# Altium schematic symbol library WCAP-FTBE.SchLib: 30 symbols
Pins are listed as number, name and electrical type; pins without a type are passive.

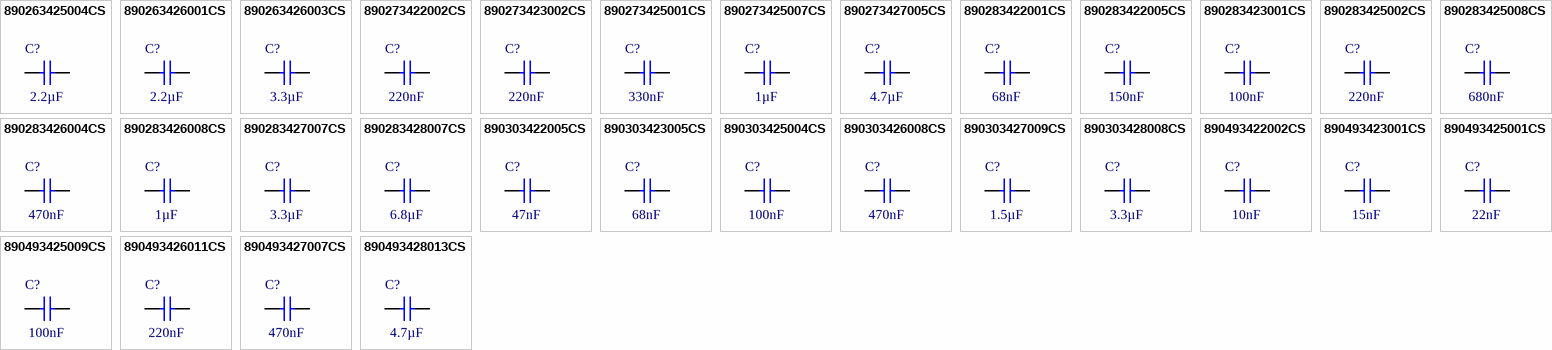
[diagram p0: symbols 890263425004CS to 890493428013CS]

## 890263425004CS
designator C?, comment 2.2µF
WCAP-FTBE Film Capacitor, THT, L18 x W8.5 x H15mm, 2.2µF, 100V; Manufacturer Part Number: 890263425004CS; Manufacturer: Wurth Elektronik; Dissipation Factor @1kHz: 1%; Insulation Resistance: 1.36GΩ; Rate of Voltage Rise: 9V/µs; Rated Voltage @85degC: 100V (DC); Rated Voltage @105degC: 80V (DC); Category: Film Capacitors; Match Code: WCAP-FTBE; ComponentLink1Description: Website Link; ComponentLink1URL: https://www.we-online.com/redexpert/article/890263425004CS?ad; ComponentLink2Description: Datasheet Link; ComponentLink2URL: https://www.we-online.com/redexpert/spec/890263425004CS?ad; Mount: Through Hole; Min Operating Temperature: -40°C; Max Operating Temperature: 85°C; Packaging: Carton; Length: 18mm; Width: 8.5mm; Height: 15mm; Capacitance: 2.2µF
footprint WCAP-FTBE_L18W8.5H15
simulation model 890263426001CS_2.2uF
pins: 1, 2

## 890263426001CS
designator C?, comment 2.2µF
WCAP-FTBE Film Capacitor, THT, L26 x W6 x H15mm, 2.2µF, 100V; Manufacturer Part Number: 890263426001CS; Manufacturer: Wurth Elektronik; Dissipation Factor @1kHz: 1%; Insulation Resistance: 1.36GΩ; Rate of Voltage Rise: 5V/µs; Rated Voltage @85degC: 100V (DC); Rated Voltage @105degC: 80V (DC); Category: Film Capacitors; Match Code: WCAP-FTBE; ComponentLink1Description: Website Link; ComponentLink1URL: https://www.we-online.com/redexpert/article/890263426001CS?ad; ComponentLink2Description: Datasheet Link; ComponentLink2URL: https://www.we-online.com/redexpert/spec/890263426001CS?ad; Mount: Through Hole; Min Operating Temperature: -40°C; Max Operating Temperature: 85°C; Packaging: Carton; Length: 26mm; Width: 6mm; Height: 15mm; Capacitance: 2.2µF
footprint WCAP-FTBE_L26W6H15
simulation model 890263426003CS_3.3uF
pins: 1, 2

## 890263426003CS
designator C?, comment 3.3µF
WCAP-FTBE Film Capacitor, THT, L26 x W7 x H16.5mm, 3.3µF, 100V; Manufacturer Part Number: 890263426003CS; Manufacturer: Wurth Elektronik; Dissipation Factor @1kHz: 1%; Insulation Resistance: 909.09MΩ; Rate of Voltage Rise: 5V/µs; Rated Voltage @85degC: 100V (DC); Rated Voltage @105degC: 80V (DC); Category: Film Capacitors; Match Code: WCAP-FTBE; ComponentLink1Description: Website Link; ComponentLink1URL: https://www.we-online.com/redexpert/article/890263426003CS?ad; ComponentLink2Description: Datasheet Link; ComponentLink2URL: https://www.we-online.com/redexpert/spec/890263426003CS?ad; Mount: Through Hole; Min Operating Temperature: -40°C; Max Operating Temperature: 85°C; Packaging: Carton; Length: 26mm; Width: 7mm; Height: 16.5mm; Capacitance: 3.3µF
footprint WCAP-FTBE_L26W7H16.5
simulation model 890283427007CS_3.3uF
pins: 1, 2

## 890273422002CS
designator C?, comment 220nF
WCAP-FTBE Film Capacitor, THT, L10.5 x W6 x H12mm, 220nF, 250V; Manufacturer Part Number: 890273422002CS; Manufacturer: Wurth Elektronik; Dissipation Factor @1kHz: 1%; Insulation Resistance: 9GΩ; Rate of Voltage Rise: 38V/µs; Rated Voltage @85degC: 250V (DC); Rated Voltage @105degC: 200V (DC); Category: Film Capacitors; Match Code: WCAP-FTBE; ComponentLink1Description: Website Link; ComponentLink1URL: https://www.we-online.com/redexpert/article/890273422002CS?ad; ComponentLink2Description: Datasheet Link; ComponentLink2URL: https://www.we-online.com/redexpert/spec/890273422002CS?ad; Mount: Through Hole; Min Operating Temperature: -40°C; Max Operating Temperature: 85°C; Packaging: Carton; Length: 10.5mm; Width: 6mm; Height: 12mm; Capacitance: 220nF
footprint WCAP-FTBE_L10.5W6H12
simulation model 890273423002CS_220nF
pins: 1, 2

## 890273423002CS
designator C?, comment 220nF
WCAP-FTBE Film Capacitor, THT, L13 x W5 x H11mm, 220nF, 250V; Manufacturer Part Number: 890273423002CS; Manufacturer: Wurth Elektronik; Dissipation Factor @1kHz: 1%; Insulation Resistance: 9GΩ; Rate of Voltage Rise: 23V/µs; Rated Voltage @85degC: 250V (DC); Rated Voltage @105degC: 200V (DC); Category: Film Capacitors; Match Code: WCAP-FTBE; ComponentLink1Description: Website Link; ComponentLink1URL: https://www.we-online.com/redexpert/article/890273423002CS?ad; ComponentLink2Description: Datasheet Link; ComponentLink2URL: https://www.we-online.com/redexpert/spec/890273423002CS?ad; Mount: Through Hole; Min Operating Temperature: -40°C; Max Operating Temperature: 85°C; Packaging: Carton; Length: 13mm; Width: 5mm; Height: 11mm; Capacitance: 220nF
footprint WCAP-FTBE_L13W5H11
simulation model 890283425002CS_220nF
pins: 1, 2

## 890273425001CS
designator C?, comment 330nF
WCAP-FTBE Film Capacitor, THT, L18 x W5 x H11mm, 330nF, 250V; Manufacturer Part Number: 890273425001CS; Manufacturer: Wurth Elektronik; Dissipation Factor @1kHz: 1%; Insulation Resistance: 9GΩ; Rate of Voltage Rise: 8V/µs; Rated Voltage @85degC: 250V (DC); Rated Voltage @105degC: 200V (DC); Category: Film Capacitors; Match Code: WCAP-FTBE; ComponentLink1Description: Website Link; ComponentLink1URL: https://www.we-online.com/redexpert/article/890273425001CS?ad; ComponentLink2Description: Datasheet Link; ComponentLink2URL: https://www.we-online.com/redexpert/spec/890273425001CS?ad; Mount: Through Hole; Min Operating Temperature: -40°C; Max Operating Temperature: 85°C; Packaging: Carton; Length: 18mm; Width: 5mm; Height: 11mm; Capacitance: 330nF
footprint WCAP-FTBE_L18W5H11
simulation model 890283426004CS_470nF
pins: 1, 2

## 890273425007CS
designator C?, comment 1µF
WCAP-FTBE Film Capacitor, THT, L18 x W7 x H13mm, 1µF, 250V; Manufacturer Part Number: 890273425007CS; Manufacturer: Wurth Elektronik; Dissipation Factor @1kHz: 1%; Insulation Resistance: 3GΩ; Rate of Voltage Rise: 11V/µs; Rated Voltage @85degC: 250V (DC); Rated Voltage @105degC: 200V (DC); Category: Film Capacitors; Match Code: WCAP-FTBE; ComponentLink1Description: Website Link; ComponentLink1URL: https://www.we-online.com/redexpert/article/890273425007CS?ad; ComponentLink2Description: Datasheet Link; ComponentLink2URL: https://www.we-online.com/redexpert/spec/890273425007CS?ad; Mount: Through Hole; Min Operating Temperature: -40°C; Max Operating Temperature: 85°C; Packaging: Carton; Length: 18mm; Width: 7mm; Height: 13mm; Capacitance: 1µF
footprint WCAP-FTBE_L18W7H13
simulation model 890283426008CS_1uF
pins: 1, 2

## 890273427005CS
designator C?, comment 4.7µF
WCAP-FTBE Film Capacitor, THT, L31 x W11 x H20mm, 4.7µF, 250V; Manufacturer Part Number: 890273427005CS; Manufacturer: Wurth Elektronik; Dissipation Factor @1kHz: 1%; Insulation Resistance: 638.3MΩ; Rate of Voltage Rise: 6V/µs; Rated Voltage @85degC: 250V (DC); Rated Voltage @105degC: 200V (DC); Category: Film Capacitors; Match Code: WCAP-FTBE; ComponentLink1Description: Website Link; ComponentLink1URL: https://www.we-online.com/redexpert/article/890273427005CS?ad; ComponentLink2Description: Datasheet Link; ComponentLink2URL: https://www.we-online.com/redexpert/spec/890273427005CS?ad; Mount: Through Hole; Min Operating Temperature: -40°C; Max Operating Temperature: 85°C; Packaging: Carton; Length: 31mm; Width: 11mm; Height: 20mm; Capacitance: 4.7µF
footprint WCAP-FTBE_L31W11H20
simulation model 890493428013CS_4.7uF
pins: 1, 2

## 890283422001CS
designator C?, comment 68nF
WCAP-FTBE Film Capacitor, THT, L10.5 x W5 x H11mm, 68nF, 400V; Manufacturer Part Number: 890283422001CS; Manufacturer: Wurth Elektronik; Dissipation Factor @1kHz: 1%; Insulation Resistance: 9GΩ; Rate of Voltage Rise: 44V/µs; Rated Voltage @85degC: 400V (DC); Rated Voltage @105degC: 320V (DC); Category: Film Capacitors; Match Code: WCAP-FTBE; ComponentLink1Description: Website Link; ComponentLink1URL: https://www.we-online.com/redexpert/article/890283422001CS?ad; ComponentLink2Description: Datasheet Link; ComponentLink2URL: https://www.we-online.com/redexpert/spec/890283422001CS?ad; Mount: Through Hole; Min Operating Temperature: -40°C; Max Operating Temperature: 85°C; Packaging: Carton; Length: 10.5mm; Width: 5mm; Height: 11mm; Capacitance: 68nF
footprint WCAP-FTBE_L10.5W5H11
simulation model 890283422001CS_68nF
pins: 1, 2

## 890283422005CS
designator C?, comment 150nF
WCAP-FTBE Film Capacitor, THT, L10.5 x W6 x H12mm, 150nF, 400V; Manufacturer Part Number: 890283422005CS; Manufacturer: Wurth Elektronik; Dissipation Factor @1kHz: 1%; Insulation Resistance: 9GΩ; Rate of Voltage Rise: 46V/µs; Rated Voltage @85degC: 400V (DC); Rated Voltage @105degC: 320V (DC); Category: Film Capacitors; Match Code: WCAP-FTBE; ComponentLink1Description: Website Link; ComponentLink1URL: https://www.we-online.com/redexpert/article/890283422005CS?ad; ComponentLink2Description: Datasheet Link; ComponentLink2URL: https://www.we-online.com/redexpert/spec/890283422005CS?ad; Mount: Through Hole; Min Operating Temperature: -40°C; Max Operating Temperature: 85°C; Packaging: Carton; Length: 10.5mm; Width: 6mm; Height: 12mm; Capacitance: 150nF
footprint WCAP-FTBE_L10.5W6H12
simulation model 890283422005CS_150nF
pins: 1, 2

## 890283423001CS
designator C?, comment 100nF
WCAP-FTBE Film Capacitor, THT, L13 x W5 x H11mm, 100nF, 400V; Manufacturer Part Number: 890283423001CS; Manufacturer: Wurth Elektronik; Dissipation Factor @1kHz: 1%; Insulation Resistance: 9GΩ; Rate of Voltage Rise: 34V/µs; Rated Voltage @85degC: 400V (DC); Rated Voltage @105degC: 320V (DC); Category: Film Capacitors; Match Code: WCAP-FTBE; ComponentLink1Description: Website Link; ComponentLink1URL: https://www.we-online.com/redexpert/article/890283423001CS?ad; ComponentLink2Description: Datasheet Link; ComponentLink2URL: https://www.we-online.com/redexpert/spec/890283423001CS?ad; Mount: Through Hole; Min Operating Temperature: -40°C; Max Operating Temperature: 85°C; Packaging: Carton; Length: 13mm; Width: 5mm; Height: 11mm; Capacitance: 100nF
footprint WCAP-FTBE_L13W5H11
simulation model 890283423001CS_100nF
pins: 1, 2

## 890283425002CS
designator C?, comment 220nF
WCAP-FTBE Film Capacitor, THT, L18 x W5 x H11mm, 220nF, 400V; Manufacturer Part Number: 890283425002CS; Manufacturer: Wurth Elektronik; Dissipation Factor @1kHz: 1%; Insulation Resistance: 9GΩ; Rate of Voltage Rise: 12V/µs; Rated Voltage @85degC: 400V (DC); Rated Voltage @105degC: 320V (DC); Category: Film Capacitors; Match Code: WCAP-FTBE; ComponentLink1Description: Website Link; ComponentLink1URL: https://www.we-online.com/redexpert/article/890283425002CS?ad; ComponentLink2Description: Datasheet Link; ComponentLink2URL: https://www.we-online.com/redexpert/spec/890283425002CS?ad; Mount: Through Hole; Min Operating Temperature: -40°C; Max Operating Temperature: 85°C; Packaging: Carton; Length: 18mm; Width: 5mm; Height: 11mm; Capacitance: 220nF
footprint WCAP-FTBE_L18W5H11
simulation model 890493426011CS_220nF
pins: 1, 2

## 890283425008CS
designator C?, comment 680nF
WCAP-FTBE Film Capacitor, THT, L18 x W8.5 x H15mm, 680nF, 400V; Manufacturer Part Number: 890283425008CS; Manufacturer: Wurth Elektronik; Dissipation Factor @1kHz: 1%; Insulation Resistance: 4.41GΩ; Rate of Voltage Rise: 18V/µs; Rated Voltage @85degC: 400V (DC); Rated Voltage @105degC: 320V (DC); Category: Film Capacitors; Match Code: WCAP-FTBE; ComponentLink1Description: Website Link; ComponentLink1URL: https://www.we-online.com/redexpert/article/890283425008CS?ad; ComponentLink2Description: Datasheet Link; ComponentLink2URL: https://www.we-online.com/redexpert/spec/890283425008CS?ad; Mount: Through Hole; Min Operating Temperature: -40°C; Max Operating Temperature: 85°C; Packaging: Carton; Length: 18mm; Width: 8.5mm; Height: 15mm; Capacitance: 680nF
footprint WCAP-FTBE_L18W8.5H15
simulation model 890273425007CS_1uF
pins: 1, 2

## 890283426004CS
designator C?, comment 470nF
WCAP-FTBE Film Capacitor, THT, L26 x W6 x H15mm, 470nF, 400V; Manufacturer Part Number: 890283426004CS; Manufacturer: Wurth Elektronik; Dissipation Factor @1kHz: 1%; Insulation Resistance: 6.38GΩ; Rate of Voltage Rise: 11V/µs; Rated Voltage @85degC: 400V (DC); Rated Voltage @105degC: 320V (DC); Category: Film Capacitors; Match Code: WCAP-FTBE; ComponentLink1Description: Website Link; ComponentLink1URL: https://www.we-online.com/redexpert/article/890283426004CS?ad; ComponentLink2Description: Datasheet Link; ComponentLink2URL: https://www.we-online.com/redexpert/spec/890283426004CS?ad; Mount: Through Hole; Min Operating Temperature: -40°C; Max Operating Temperature: 85°C; Packaging: Carton; Length: 26mm; Width: 6mm; Height: 15mm; Capacitance: 470nF
footprint WCAP-FTBE_L26W6H15
simulation model 890303426008CS_470nF
pins: 1, 2

## 890283426008CS
designator C?, comment 1µF
WCAP-FTBE Film Capacitor, THT, L26 x W9 x H18mm, 1µF, 400V; Manufacturer Part Number: 890283426008CS; Manufacturer: Wurth Elektronik; Dissipation Factor @1kHz: 1%; Insulation Resistance: 3GΩ; Rate of Voltage Rise: 13V/µs; Rated Voltage @85degC: 400V (DC); Rated Voltage @105degC: 320V (DC); Category: Film Capacitors; Match Code: WCAP-FTBE; ComponentLink1Description: Website Link; ComponentLink1URL: https://www.we-online.com/redexpert/article/890283426008CS?ad; ComponentLink2Description: Datasheet Link; ComponentLink2URL: https://www.we-online.com/redexpert/spec/890283426008CS?ad; Mount: Through Hole; Min Operating Temperature: -40°C; Max Operating Temperature: 85°C; Packaging: Carton; Length: 26mm; Width: 9mm; Height: 18mm; Capacitance: 1µF
footprint WCAP-FTBE_L26W9H18
simulation model 890303427009CS_1.5uF
pins: 1, 2

## 890283427007CS
designator C?, comment 3.3µF
WCAP-FTBE Film Capacitor, THT, L31 x W15 x H24.5mm, 3.3µF, 400V; Manufacturer Part Number: 890283427007CS; Manufacturer: Wurth Elektronik; Dissipation Factor @1kHz: 1%; Insulation Resistance: 909.09MΩ; Rate of Voltage Rise: 11V/µs; Rated Voltage @85degC: 400V (DC); Rated Voltage @105degC: 320V (DC); Category: Film Capacitors; Match Code: WCAP-FTBE; ComponentLink1Description: Website Link; ComponentLink1URL: https://www.we-online.com/redexpert/article/890283427007CS?ad; ComponentLink2Description: Datasheet Link; ComponentLink2URL: https://www.we-online.com/redexpert/spec/890283427007CS?ad; Mount: Through Hole; Min Operating Temperature: -40°C; Max Operating Temperature: 85°C; Packaging: Carton; Length: 31mm; Width: 15mm; Height: 24.5mm; Capacitance: 3.3µF
footprint WCAP-FTBE_L31W15H24.5
simulation model 890303428008CS_3.3uF
pins: 1, 2

## 890283428007CS
designator C?, comment 6.8µF
WCAP-FTBE Film Capacitor, THT, L42 x W20.5 x H34mm, 6.8µF, 400V; Manufacturer Part Number: 890283428007CS; Manufacturer: Wurth Elektronik; Dissipation Factor @1kHz: 1%; Insulation Resistance: 441.18MΩ; Rate of Voltage Rise: 9V/µs; Rated Voltage @85degC: 400V (DC); Rated Voltage @105degC: 320V (DC); Category: Film Capacitors; Match Code: WCAP-FTBE; ComponentLink1Description: Website Link; ComponentLink1URL: https://www.we-online.com/redexpert/article/890283428007CS?ad; ComponentLink2Description: Datasheet Link; ComponentLink2URL: https://www.we-online.com/redexpert/spec/890283428007CS?ad; Mount: Through Hole; Min Operating Temperature: -40°C; Max Operating Temperature: 85°C; Packaging: Carton; Length: 42mm; Width: 20.5mm; Height: 34mm; Capacitance: 6.8µF
footprint WCAP-FTBE_L42W20.5H34
pins: 1, 2

## 890303422005CS
designator C?, comment 47nF
WCAP-FTBE Film Capacitor, THT, L10.5 x W6 x H12mm, 47nF, 630V; Manufacturer Part Number: 890303422005CS; Manufacturer: Wurth Elektronik; Dissipation Factor @1kHz: 1%; Insulation Resistance: 9GΩ; Rate of Voltage Rise: 100V/µs; Rated Voltage @85degC: 630V (DC); Rated Voltage @105degC: 504V (DC); Category: Film Capacitors; Match Code: WCAP-FTBE; ComponentLink1Description: Website Link; ComponentLink1URL: https://www.we-online.com/redexpert/article/890303422005CS?ad; ComponentLink2Description: Datasheet Link; ComponentLink2URL: https://www.we-online.com/redexpert/spec/890303422005CS?ad; Mount: Through Hole; Min Operating Temperature: -40°C; Max Operating Temperature: 85°C; Packaging: Carton; Length: 10.5mm; Width: 6mm; Height: 12mm; Capacitance: 47nF
footprint WCAP-FTBE_L10.5W6H12
simulation model 890303422005CS_47nF
pins: 1, 2

## 890303423005CS
designator C?, comment 68nF
WCAP-FTBE Film Capacitor, THT, L13 x W5.5 x H11mm, 68nF, 630V; Manufacturer Part Number: 890303423005CS; Manufacturer: Wurth Elektronik; Dissipation Factor @1kHz: 1%; Insulation Resistance: 9GΩ; Rate of Voltage Rise: 52V/µs; Rated Voltage @85degC: 630V (DC); Rated Voltage @105degC: 504V (DC); Category: Film Capacitors; Match Code: WCAP-FTBE; ComponentLink1Description: Website Link; ComponentLink1URL: https://www.we-online.com/redexpert/article/890303423005CS?ad; ComponentLink2Description: Datasheet Link; ComponentLink2URL: https://www.we-online.com/redexpert/spec/890303423005CS?ad; Mount: Through Hole; Min Operating Temperature: -40°C; Max Operating Temperature: 85°C; Packaging: Carton; Length: 13mm; Width: 5.5mm; Height: 11mm; Capacitance: 68nF
footprint WCAP-FTBE_L13W5.5H11
simulation model 890303423005CS_68nF
pins: 1, 2

## 890303425004CS
designator C?, comment 100nF
WCAP-FTBE Film Capacitor, THT, L18 x W6 x H12mm, 100nF, 630V; Manufacturer Part Number: 890303425004CS; Manufacturer: Wurth Elektronik; Dissipation Factor @1kHz: 1%; Insulation Resistance: 9GΩ; Rate of Voltage Rise: 28V/µs; Rated Voltage @85degC: 630V (DC); Rated Voltage @105degC: 504V (DC); Category: Film Capacitors; Match Code: WCAP-FTBE; ComponentLink1Description: Website Link; ComponentLink1URL: https://www.we-online.com/redexpert/article/890303425004CS?ad; ComponentLink2Description: Datasheet Link; ComponentLink2URL: https://www.we-online.com/redexpert/spec/890303425004CS?ad; Mount: Through Hole; Min Operating Temperature: -40°C; Max Operating Temperature: 85°C; Packaging: Carton; Length: 18mm; Width: 6mm; Height: 12mm; Capacitance: 100nF
footprint WCAP-FTBE_L18W6H12
simulation model 890303425004CS_100nF
pins: 1, 2

## 890303426008CS
designator C?, comment 470nF
WCAP-FTBE Film Capacitor, THT, L26 x W9 x H18mm, 470nF, 630V; Manufacturer Part Number: 890303426008CS; Manufacturer: Wurth Elektronik; Dissipation Factor @1kHz: 1%; Insulation Resistance: 6.38GΩ; Rate of Voltage Rise: 20V/µs; Rated Voltage @85degC: 630V (DC); Rated Voltage @105degC: 504V (DC); Category: Film Capacitors; Match Code: WCAP-FTBE; ComponentLink1Description: Website Link; ComponentLink1URL: https://www.we-online.com/redexpert/article/890303426008CS?ad; ComponentLink2Description: Datasheet Link; ComponentLink2URL: https://www.we-online.com/redexpert/spec/890303426008CS?ad; Mount: Through Hole; Min Operating Temperature: -40°C; Max Operating Temperature: 85°C; Packaging: Carton; Length: 26mm; Width: 9mm; Height: 18mm; Capacitance: 470nF
footprint WCAP-FTBE_L26W9H18
simulation model 890493427007CS_470nF
pins: 1, 2

## 890303427009CS
designator C?, comment 1.5µF
WCAP-FTBE Film Capacitor, THT, L31 x W15 x H24.5mm, 1.5µF, 630V; Manufacturer Part Number: 890303427009CS; Manufacturer: Wurth Elektronik; Dissipation Factor @1kHz: 1%; Insulation Resistance: 2GΩ; Rate of Voltage Rise: 17V/µs; Rated Voltage @85degC: 630V (DC); Rated Voltage @105degC: 504V (DC); Category: Film Capacitors; Match Code: WCAP-FTBE; ComponentLink1Description: Website Link; ComponentLink1URL: https://www.we-online.com/redexpert/article/890303427009CS?ad; ComponentLink2Description: Datasheet Link; ComponentLink2URL: https://www.we-online.com/redexpert/spec/890303427009CS?ad; Mount: Through Hole; Min Operating Temperature: -40°C; Max Operating Temperature: 85°C; Packaging: Carton; Length: 31mm; Width: 15mm; Height: 24.5mm; Capacitance: 1.5µF
footprint WCAP-FTBE_L31W15H24.5
simulation model 890263425004CS_2.2uF
pins: 1, 2

## 890303428008CS
designator C?, comment 3.3µF
WCAP-FTBE Film Capacitor, THT, L42 x W17 x H30mm, 3.3µF, 630V; Manufacturer Part Number: 890303428008CS; Manufacturer: Wurth Elektronik; Dissipation Factor @1kHz: 1%; Insulation Resistance: 909.09MΩ; Rate of Voltage Rise: 12V/µs; Rated Voltage @85degC: 630V (DC); Rated Voltage @105degC: 504V (DC); Category: Film Capacitors; Match Code: WCAP-FTBE; ComponentLink1Description: Website Link; ComponentLink1URL: https://www.we-online.com/redexpert/article/890303428008CS?ad; ComponentLink2Description: Datasheet Link; ComponentLink2URL: https://www.we-online.com/redexpert/spec/890303428008CS?ad; Mount: Through Hole; Min Operating Temperature: -40°C; Max Operating Temperature: 85°C; Packaging: Carton; Length: 42mm; Width: 17mm; Height: 30mm; Capacitance: 3.3µF
footprint WCAP-FTBE_L42W17H30
simulation model 890273427005CS_4.7uF
pins: 1, 2

## 890493422002CS
designator C?, comment 10nF
WCAP-FTBE Film Capacitor, THT, L10.5 x W6 x H12mm, 10nF, 1000V; Manufacturer Part Number: 890493422002CS; Manufacturer: Wurth Elektronik; Dissipation Factor @1kHz: 1%; Insulation Resistance: 9GΩ; Rate of Voltage Rise: 160V/µs; Rated Voltage @85degC: 1000V (DC); Rated Voltage @105degC: 800V (DC); Category: Film Capacitors; Match Code: WCAP-FTBE; ComponentLink1Description: Website Link; ComponentLink1URL: https://www.we-online.com/redexpert/article/890493422002CS?ad; ComponentLink2Description: Datasheet Link; ComponentLink2URL: https://www.we-online.com/redexpert/spec/890493422002CS?ad; Mount: Through Hole; Min Operating Temperature: -40°C; Max Operating Temperature: 85°C; Packaging: Carton; Length: 10.5mm; Width: 6mm; Height: 12mm; Capacitance: 10nF
footprint WCAP-FTBE_L10.5W6H12
simulation model 890493422002CS_10nF
pins: 1, 2

## 890493423001CS
designator C?, comment 15nF
WCAP-FTBE Film Capacitor, THT, L13 x W5 x H11mm, 15nF, 1000V; Manufacturer Part Number: 890493423001CS; Manufacturer: Wurth Elektronik; Dissipation Factor @1kHz: 1%; Insulation Resistance: 9GΩ; Rate of Voltage Rise: 83V/µs; Rated Voltage @85degC: 1000V (DC); Rated Voltage @105degC: 800V (DC); Category: Film Capacitors; Match Code: WCAP-FTBE; ComponentLink1Description: Website Link; ComponentLink1URL: https://www.we-online.com/redexpert/article/890493423001CS?ad; ComponentLink2Description: Datasheet Link; ComponentLink2URL: https://www.we-online.com/redexpert/spec/890493423001CS?ad; Mount: Through Hole; Min Operating Temperature: -40°C; Max Operating Temperature: 85°C; Packaging: Carton; Length: 13mm; Width: 5mm; Height: 11mm; Capacitance: 15nF
footprint WCAP-FTBE_L13W5H11
simulation model 890493423001CS_15nF
pins: 1, 2

## 890493425001CS
designator C?, comment 22nF
WCAP-FTBE Film Capacitor, THT, L18 x W5 x H11mm, 22nF, 1000V; Manufacturer Part Number: 890493425001CS; Manufacturer: Wurth Elektronik; Dissipation Factor @1kHz: 1%; Insulation Resistance: 9GΩ; Rate of Voltage Rise: 27V/µs; Rated Voltage @85degC: 1000V (DC); Rated Voltage @105degC: 800V (DC); Category: Film Capacitors; Match Code: WCAP-FTBE; ComponentLink1Description: Website Link; ComponentLink1URL: https://www.we-online.com/redexpert/article/890493425001CS?ad; ComponentLink2Description: Datasheet Link; ComponentLink2URL: https://www.we-online.com/redexpert/spec/890493425001CS?ad; Mount: Through Hole; Min Operating Temperature: -40°C; Max Operating Temperature: 85°C; Packaging: Carton; Length: 18mm; Width: 5mm; Height: 11mm; Capacitance: 22nF
footprint WCAP-FTBE_L18W5H11
simulation model 890493425001CS_22nF
pins: 1, 2

## 890493425009CS
designator C?, comment 100nF
WCAP-FTBE Film Capacitor, THT, L18 x W8.5 x H15mm, 100nF, 1000V; Manufacturer Part Number: 890493425009CS; Manufacturer: Wurth Elektronik; Dissipation Factor @1kHz: 1%; Insulation Resistance: 9GΩ; Rate of Voltage Rise: 44V/µs; Rated Voltage @85degC: 1000V (DC); Rated Voltage @105degC: 800V (DC); Category: Film Capacitors; Match Code: WCAP-FTBE; ComponentLink1Description: Website Link; ComponentLink1URL: https://www.we-online.com/redexpert/article/890493425009CS?ad; ComponentLink2Description: Datasheet Link; ComponentLink2URL: https://www.we-online.com/redexpert/spec/890493425009CS?ad; Mount: Through Hole; Min Operating Temperature: -40°C; Max Operating Temperature: 85°C; Packaging: Carton; Length: 18mm; Width: 8.5mm; Height: 15mm; Capacitance: 100nF
footprint WCAP-FTBE_L18W8.5H15
simulation model 890493425009CS_100nF
pins: 1, 2

## 890493426011CS
designator C?, comment 220nF
WCAP-FTBE Film Capacitor, THT, L26 x W9 x H18mm, 220nF, 1000V; Manufacturer Part Number: 890493426011CS; Manufacturer: Wurth Elektronik; Dissipation Factor @1kHz: 1%; Insulation Resistance: 9GΩ; Rate of Voltage Rise: 27V/µs; Rated Voltage @85degC: 1000V (DC); Rated Voltage @105degC: 800V (DC); Category: Film Capacitors; Match Code: WCAP-FTBE; ComponentLink1Description: Website Link; ComponentLink1URL: https://www.we-online.com/redexpert/article/890493426011CS?ad; ComponentLink2Description: Datasheet Link; ComponentLink2URL: https://www.we-online.com/redexpert/spec/890493426011CS?ad; Mount: Through Hole; Min Operating Temperature: -40°C; Max Operating Temperature: 85°C; Packaging: Carton; Length: 26mm; Width: 9mm; Height: 18mm; Capacitance: 220nF
footprint WCAP-FTBE_L26W9H18
simulation model 890273425001CS_330nF
pins: 1, 2

## 890493427007CS
designator C?, comment 470nF
WCAP-FTBE Film Capacitor, THT, L31 x W11 x H20mm, 470nF, 1000V; Manufacturer Part Number: 890493427007CS; Manufacturer: Wurth Elektronik; Dissipation Factor @1kHz: 1%; Insulation Resistance: 6.38GΩ; Rate of Voltage Rise: 22V/µs; Rated Voltage @85degC: 1000V (DC); Rated Voltage @105degC: 800V (DC); Category: Film Capacitors; Match Code: WCAP-FTBE; ComponentLink1Description: Website Link; ComponentLink1URL: https://www.we-online.com/redexpert/article/890493427007CS?ad; ComponentLink2Description: Datasheet Link; ComponentLink2URL: https://www.we-online.com/redexpert/spec/890493427007CS?ad; Mount: Through Hole; Min Operating Temperature: -40°C; Max Operating Temperature: 85°C; Packaging: Carton; Length: 31mm; Width: 11mm; Height: 20mm; Capacitance: 470nF
footprint WCAP-FTBE_L31W11H20
simulation model 890283425008CS_680nF
pins: 1, 2

## 890493428013CS
designator C?, comment 4.7µF
WCAP-FTBE Film Capacitor, THT, L42 x W31 x H43mm, 4.7µF, 1000V; Manufacturer Part Number: 890493428013CS; Manufacturer: Wurth Elektronik; Dissipation Factor @1kHz: 1%; Insulation Resistance: 638.3MΩ; Rate of Voltage Rise: 16V/µs; Rated Voltage @85degC: 1000V (DC); Rated Voltage @105degC: 800V (DC); Category: Film Capacitors; Match Code: WCAP-FTBE; ComponentLink1Description: Website Link; ComponentLink1URL: https://www.we-online.com/redexpert/article/890493428013CS?ad; ComponentLink2Description: Datasheet Link; ComponentLink2URL: https://www.we-online.com/redexpert/spec/890493428013CS?ad; Mount: Through Hole; Min Operating Temperature: -40°C; Max Operating Temperature: 85°C; Packaging: Carton; Length: 42mm; Width: 31mm; Height: 43mm; Capacitance: 4.7µF
footprint WCAP-FTBE_L42W31H43
simulation model 890283428007CS_6.8uF
pins: 1, 2